# Altium footprint library Heatsink.PcbLib: 31 footprints (part 1 of 2)
Each footprint in its own frame and in the unit in brackets; x right, y up, seen from the top. Pads: shape width x height; smd on the part's side, far side on the other; paste and mask are expansions set on the pad; w line width, h text height; cw(c..) or ccw(c..) is an arc to the next point about the centre after c.
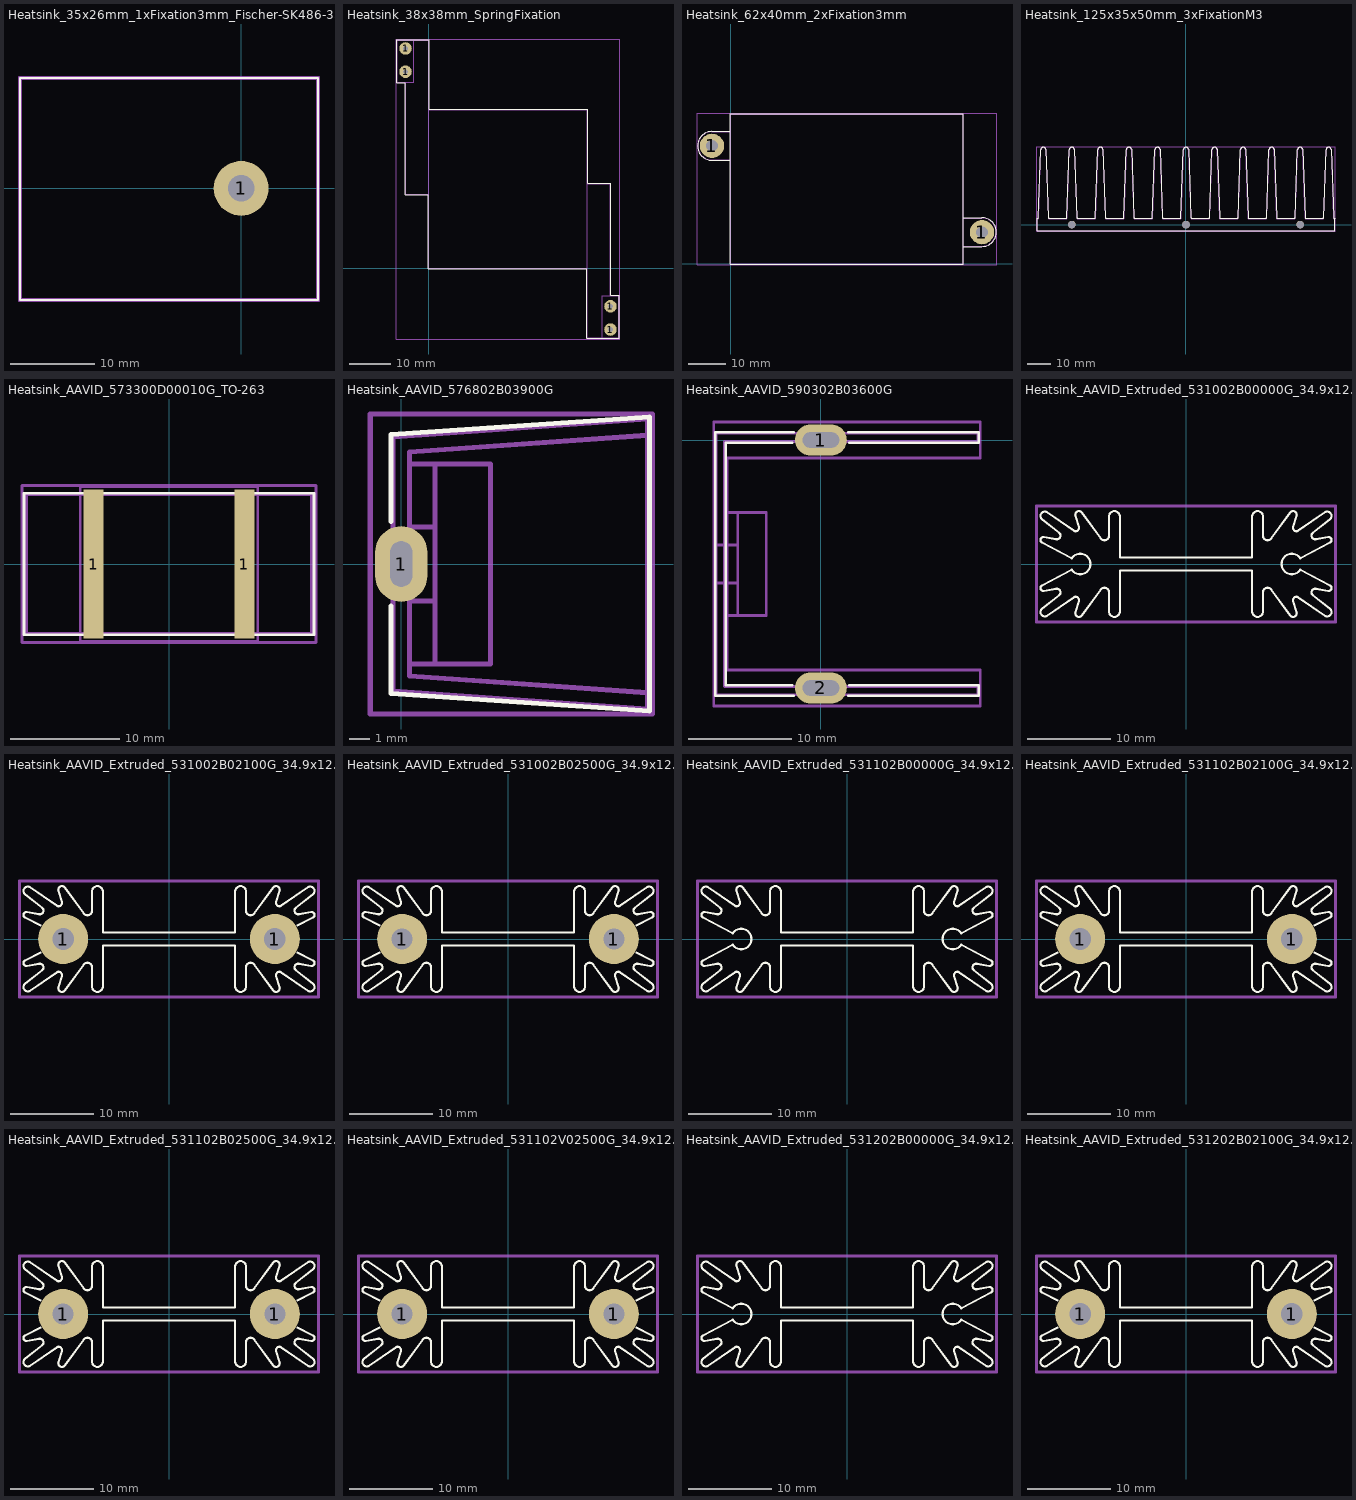
[diagram p0: the footprints below, top view; thin cyan lines are the x and y axes]

## Heatsink_35x26mm_1xFixation3mm_Fischer-SK486-35 [mil]
pads (1):
  round 255.8 hole 122: 1(0,0)
F.SilkS:
  lines w10: -1030.32,-519.68 -1030.32,513.39 357.48,513.39 357.48,-519.68 -1030.32,-519.68
Top Assembly:
  lines w10: -1025.2,-514.96 -1025.2,508.66 352.76,508.66 352.76,-514.96 -1025.2,-514.96
  text "'.Designator'" at -495.54,229.51 h39.37
Top Courtyard:
  lines w10: -1035.04,-524.8 -1035.04,518.5 362.6,518.5 362.6,-524.8 -1035.04,-524.8
Top Designator:
  text ".Designator" at -636.12,-23.14 h60

## Heatsink_38x38mm_SpringFixation [mil]
pads (4):
  round 118.1 hole 43.3: 1(-220,1860) 1(-220,2080) 1(1720,-580) 1(1720,-360)
F.SilkS:
  lines w10: -305.12,1755.91 -224.41,1755.91 -224.41,694.88 -3.94,694.88 -3.94,-3.94 1496.06,-3.94 1496.06,-663.39 1805.12,-663.39 1805.12,-255.91 1724.41,-255.91 1724.41,803.15 1503.94,803.15 1503.94,1503.94 3.94,1503.94 3.94,2163.39 -305.12,2163.39 -305.12,1755.91
Top Assembly:
  lines w10: -220,1760 -220,700 0,700 ; 1500,800 1720,800 1720,-260 ; -140,2160 -140,1760 -300,1760 -300,2160 -140,2160 ; -140,2160 0,2160 0,1500 ; 0,1500 1500,1500 1500,0 ; 0,1500 0,0 1500,0 ; 1500,0 1500,-660 1640,-660 ; 1640,-660 1800,-660 1800,-260 1640,-260 1640,-660
  text "'.Designator'" at 590.68,716.92 h39.37
Top Courtyard:
  lines w10: -309.84,-669.68 1809.84,-669.68 1809.84,2169.68 -309.84,2169.68 -309.84,-669.68
Top Designator:
  text ".Designator" at 450.1,730.01 h60

## Heatsink_62x40mm_2xFixation3mm [mil]
pads (2):
  round 255.8 hole 122: 1(-195,1240) 1(2640,335)
F.SilkS:
  lines w10: -4.06,1088.43 -195,1088.43 cw(c-195,1240) -195,1391.57 -4.06,1391.57 ; 2445.12,183.43 2640,183.43 ccw(c2640,335) 2640,486.57 2445.12,486.57 ; -3.94,-3.94 2444.88,-3.94 2444.88,1578.74 -3.94,1578.74 -3.94,-3.94
Top Assembly:
  lines w10: 0,1092.64 -195,1092.36 cw(c-195,1240) -195,1387.64 0,1387.64 ; 2441.18,187.36 2640,187.36 ccw(c2640,335) 2640,482.64 2441.18,482.64 ; 0,0 2440.94,0 2440.94,1574.8 0,1574.8 0,0
  text "'.Designator'" at 1063.2,754.4 h39.37
Top Courtyard:
  lines w10: -352.36,-9.84 2797.64,-9.84 2797.64,1584.65 -352.36,1584.65 -352.36,-9.84
Top Designator:
  text ".Designator" at 922.73,767.41 h60

## Heatsink_125x35x50mm_3xFixationM3 [mm]
pads (3):
  round 3.2 hole 3.2: Un1(-48,0) Un2(0,0) Un3(48.006,0)
F.SilkS:
  lines w0.254: -62.6,2.57 -62.6,-2.65 62.6,-2.65 62.6,2.55 cw(c62.6,3.05) 62.102,3 ; -62.59,2.57 ccw(c-62.59,3.07) -62.102,2.962 ; -62.1,2.97 -61.1,31.52 cw(c-60,31.47) -58.909,31.619 ; -58.91,31.62 -57.9,3.02 ; -57.898,3.02 ccw(c-57.4,3.07) -57.4,2.57 ; -57.42,2.57 -50.58,2.57 ; -50.59,2.57 ccw(c-50.59,3.07) -50.102,2.962 ; -50.1,2.97 -49.1,31.52 cw(c-48,31.47) -46.909,31.619 ; -46.91,31.62 -45.9,3.02 ; -45.898,3.02 ccw(c-45.4,3.07) -45.4,2.57 ; -45.42,2.57 -38.58,2.57 ; -38.59,2.57 ccw(c-38.59,3.07) -38.102,2.962 ; -38.1,2.97 -37.1,31.52 cw(c-36,31.47) -34.909,31.619 ; -34.91,31.62 -33.9,3.02 ; -33.898,3.02 ccw(c-33.4,3.07) -33.4,2.57 ; -33.42,2.57 -26.58,2.57 ; -26.59,2.57 ccw(c-26.59,3.07) -26.102,2.962 ; -26.1,2.97 -25.1,31.52 cw(c-24,31.47) -22.909,31.619 ; -22.91,31.62 -21.9,3.02 ; -21.898,3.02 ccw(c-21.4,3.07) -21.4,2.57 ; -21.42,2.57 -14.58,2.57 ; -14.59,2.57 ccw(c-14.59,3.07) -14.102,2.962 ; -14.1,2.97 -13.1,31.52 cw(c-12,31.47) -10.909,31.619 ; -10.91,31.62 -9.9,3.02 ; -9.898,3.02 ccw(c-9.4,3.07) -9.4,2.57 ; -9.42,2.57 -2.58,2.57 ; -2.59,2.57 ccw(c-2.59,3.07) -2.102,2.962 ; -2.1,2.97 -1.1,31.52 cw(c0,31.47) 1.091,31.619 ; 1.09,31.62 2.1,3.02 ; 2.102,3.02 ccw(c2.6,3.07) 2.6,2.57 ; 2.58,2.57 9.42,2.57 ; 9.41,2.57 ccw(c9.41,3.07) 9.898,2.962 ; 9.9,2.97 10.9,31.52 cw(c12,31.47) 13.091,31.619 ; 13.09,31.62 14.1,3.02 ; 14.102,3.02 ccw(c14.6,3.07) 14.6,2.57 ; 14.58,2.57 21.42,2.57 ; 21.41,2.57 ccw(c21.41,3.07) 21.898,2.962 ; 21.9,2.97 22.9,31.52 cw(c24,31.47) 25.091,31.619 ; 25.09,31.62 26.1,3.02 ; 26.102,3.02 ccw(c26.6,3.07) 26.6,2.57 ; 26.58,2.57 33.42,2.57 ; 33.41,2.57 ccw(c33.41,3.07) 33.898,2.962 ; 33.9,2.97 34.9,31.52 cw(c36,31.47) 37.091,31.619 ; 37.09,31.62 38.1,3.02 ; 38.102,3.02 ccw(c38.6,3.07) 38.6,2.57 ; 38.58,2.57 45.42,2.57 ; 45.41,2.57 ccw(c45.41,3.07) 45.898,2.962 ; 45.9,2.97 46.9,31.52 cw(c48,31.47) 49.091,31.619 ; 49.09,31.62 50.1,3.02 ; 50.102,3.02 ccw(c50.6,3.07) 50.6,2.57 ; 50.58,2.57 57.42,2.57 ; 57.41,2.57 ccw(c57.41,3.07) 57.898,2.962 ; 57.9,2.95 58.9,31.5 cw(c60,31.45) 61.091,31.599 ; 61.09,31.6 62.1,3
Top Assembly:
  lines w0.254: -62.5,-2.54 62.5,-2.54 62.5,2.46 cw(c62.5,2.962) 61.998,2.962 61.001,31.463 ccw(c60,31.463) 60,32.464 ccw(c60,31.463) 58.999,31.463 58.001,2.962 ; -62.499,-2.54 -62.499,2.461 ; -62.497,2.464 ccw(c-62.497,2.964) -61.996,2.964 ; -61.999,2.962 -61.001,31.463 cw(c-60,31.463) -60,32.464 cw(c-60,31.463) -58.999,31.463 -58.001,2.962 ; -57.998,2.962 ccw(c-57.501,2.962) -57.501,2.464 ; -57.501,2.461 -50.5,2.461 ; -50.498,2.461 ccw(c-50.498,2.962) -49.997,2.962 ; -50,2.959 -49.002,31.46 cw(c-48.001,31.46) -48.001,32.461 cw(c-48.001,31.46) -47,31.46 -46.002,2.959 ; -45.999,2.959 ccw(c-45.502,2.959) -45.502,2.461 ; -45.499,2.461 -38.499,2.461 ; -38.496,2.464 ccw(c-38.496,2.964) -37.996,2.964 ; -37.998,2.962 -37,31.463 cw(c-35.999,31.463) -35.999,32.464 cw(c-35.999,31.463) -34.999,31.463 -34,2.962 ; -33.998,2.962 ccw(c-33.5,2.962) -33.5,2.464 ; -33.5,2.461 -26.5,2.461 ; -26.495,2.464 ccw(c-26.495,2.964) -25.994,2.964 ; -25.997,2.962 -24.999,31.463 cw(c-23.998,31.463) -23.998,32.464 cw(c-23.998,31.463) -22.997,31.463 -21.999,2.962 ; -21.996,2.962 ccw(c-21.499,2.962) -21.499,2.464 ; -21.501,2.461 -14.501,2.461 ; -14.496,2.461 ccw(c-14.496,2.962) -13.995,2.962 ; -13.998,2.959 -13,31.46 cw(c-11.999,31.46) -11.999,32.461 cw(c-11.999,31.46) -10.998,31.46 -10,2.959 ; -9.997,2.959 ccw(c-9.5,2.959) -9.5,2.461 -2.499,2.461 ; -2.497,2.461 ccw(c-2.497,2.962) -1.996,2.962 ; -1.999,2.959 -1.001,31.46 cw(c0,31.46) 0,32.461 cw(c0,31.46) 1.001,31.46 1.999,2.959 ; 2.002,2.959 ccw(c2.499,2.959) 2.499,2.461 9.5,2.461 ; 9.502,2.464 ccw(c9.502,2.964) 10.003,2.964 ; 10,2.962 10.998,31.463 cw(c11.999,31.463) 11.999,32.464 cw(c11.999,31.463) 13,31.463 13.998,2.962 ; 14,2.962 ccw(c14.498,2.962) 14.498,2.464 ; 14.501,2.461 21.501,2.461 ; 21.501,2.464 ccw(c21.501,2.964) 22.001,2.964 ; 21.999,2.962 22.997,31.463 cw(c23.998,31.463) 23.998,32.464 cw(c23.998,31.463) 24.999,31.463 25.997,2.962 ; 25.999,2.962 ccw(c26.497,2.962) 26.497,2.464 ; 26.5,2.461 33.5,2.461 ; 33.505,2.461 ccw(c33.505,2.962) 34.006,2.962 ; 34.003,2.959 35.001,31.46 cw(c36.002,31.46) 36.002,32.461 cw(c36.002,31.46) 37.003,31.46 38.001,2.959 ; 38.003,2.959 ccw(c38.501,2.959) 38.501,2.461 ; 38.499,2.461 45.499,2.461 ; 45.504,2.461 ccw(c45.504,2.962) 46.004,2.962 ; 46.002,2.959 47,31.46 cw(c48.001,31.46) 48.001,32.461 cw(c48.001,31.46) 49.002,31.46 50,2.959 ; 50.002,2.959 ccw(c50.5,2.959) 50.5,2.461 57.501,2.461 ; 57.503,2.464 ccw(c57.503,2.964) 58.003,2.964
  text "'.Designator'" at -4.044,-0.84 h1
Top Courtyard:
  lines w0.254: -62.75,-2.79 62.75,-2.79 62.75,32.71 -62.75,32.71 -62.75,-2.79
Top Designator:
  text ".Designator" at -7.618,14.452 h1.52

## Heatsink_AAVID_573300D00010G_TO-263 [mm]
pads (2):
  rect 1.85x13.7 smd: 1(-6.92,0) 1(6.92,0)
F.SilkS:
  lines w0.254: -13.3,-6.5 13.3,-6.5 13.3,6.5 -13.3,6.5 -13.3,-6.5
Top Assembly:
  lines w0.254: -7.5,-6.35 -7.5,6.35 ; -6.35,-6.35 -6.35,6.35 ; 6.35,-6.35 6.35,6.35 ; 7.5,-6.35 7.5,6.35 ; -13.08,-6.35 13.08,-6.35 13.08,6.35 -13.08,6.35 -13.08,-6.35
  text "'.Designator'" at -3.297,-0.91 h1
Top Courtyard:
  lines w0.254: -13.5,-7.2 13.5,-7.2 13.5,7.2 -13.5,7.2 -13.5,-7.2
Top Designator:
  text ".Designator" at -7.618,-0.508 h1.52
Dwgs.User:
  lines w0.254: -8.15,-7.1 8.15,-7.1 8.15,7.1 -8.15,7.1 -8.15,-7.1
  text "Heat Spreader" at -4.655,2.573 h1
  text "Recommended" at -4.804,4.19 h1
  text "Drain Pad" at -4.688,1.266 h1

## Heatsink_AAVID_576802B03900G [mm]
pads (1):
  rrect100% 2.6x3.78 hole 2.28 slot 1.1 at 0 deg: 1(0,0)
F.SilkS:
  lines w0.254: -0.515,-2.1 -0.515,-6.46 12.405,-7.35 12.405,7.35 -0.515,6.46 -0.515,2.125
Top Assembly:
  lines w0.254: 12.295,6.43 0.405,5.597 0.405,-5.597 12.3,-6.43 ; -0.405,-6.35 12.295,-7.24 12.295,7.24 -0.405,6.35 -0.405,-6.35
  text "'.Designator'" at 2.303,-0.84 h1
Top Courtyard:
  lines w0.254: -1.55,-7.49 12.55,-7.49 12.55,7.49 -1.55,7.49 -1.55,-7.49
Top Designator:
  text ".Designator" at -2.118,-0.508 h1.52
Dwgs.User:
  lines w0.254: 0.405,-1.85 1.675,-1.85 ; 0.405,1.85 1.675,1.85 ; 0.45,-5 4.45,-5 4.45,5 0.45,5 ; 1.675,-5 1.675,5

## Heatsink_AAVID_590302B03600G [mm]
pads (2):
  rrect100% 5.05x3 hole 1.5 slot 3.55 at 0 deg: 1(0,0) 2(0,-24.08)
F.SilkS:
  lines w0.254: -2.775,-23.82 -9.24,-23.82 -9.24,-0.26 -2.775,-0.26 ; -2.65,-24.85 -10.27,-24.85 -10.27,0.75 -2.65,0.75 ; 2.65,-24.84 15.35,-24.84 15.35,-23.82 ; 2.65,0.76 15.35,0.76 15.35,-0.25 2.775,-0.25 ; 2.775,-23.81 15.35,-23.81
Top Assembly:
  lines w0.254: -10.16,-24.74 -10.16,0.66 15.24,0.66 15.24,-0.15 -9.35,-0.15 -9.35,-23.93 15.24,-23.93 15.24,-24.74 -10.155,-24.74 ; -10.15,-13.89 -9.35,-13.89 ; -10.15,-10.19 -9.35,-10.19
  text "'.Designator'" at -1.507,-12.88 h1
Top Courtyard:
  lines w0.254: -10.41,-25.83 15.49,-25.83 15.49,-22.33 -9.1,-22.33 -9.1,-1.75 15.49,-1.75 15.49,1.75 -10.41,1.75 -10.41,-25.83
Top Designator:
  text ".Designator" at -5.078,-12.548 h1.52
Dwgs.User:
  lines w0.254: -9.35,-13.89 -8.08,-13.89 ; -9.35,-10.19 -8.08,-10.19 ; -9.305,-17.04 -5.305,-17.04 -5.305,-7.04 -9.305,-7.04 ; -8.08,-17.04 -8.08,-7.04

## Heatsink_AAVID_Extruded_531002B00000G_34.9x12.7mm_H25.4mm [mm]
F.SilkS:
  lines w0.254: -17.269,-2.565 ccw(c-17.103,-2.881) -17.041,-3.232 -15.573,-2.975 cw(c-15.498,-3.404) -15.22,-3.738 -17.251,-5.347 ccw(c-16.931,-5.768) -16.62,-6.195 -13.494,-4.007 cw(c-13.257,-4.346) -12.861,-4.467 -13.262,-5.755 ccw(c-12.837,-5.901) -12.474,-6.165 -10.227,-3.07 cw(c-9.786,-3.39) -9.24,-3.39 -9.24,-5.7 ccw(c-8.59,-5.7) -7.94,-5.7 -7.94,-0.785 0,-0.785 7.94,-0.785 7.94,-5.7 ccw(c8.59,-5.7) 9.24,-5.7 9.24,-3.39 cw(c9.786,-3.39) 10.227,-3.07 12.474,-6.165 ccw(c12.837,-5.901) 13.262,-5.755 12.861,-4.467 cw(c13.257,-4.346) 13.494,-4.007 16.62,-6.195 ccw(c16.931,-5.768) 17.251,-5.347 15.22,-3.738 cw(c15.498,-3.404) 15.573,-2.975 17.041,-3.232 ccw(c17.103,-2.881) 17.269,-2.565 13.716,-0.693 cw(c12.7,0) 11.47,0 cw(c12.7,0) 13.716,0.693 17.269,2.565 ccw(c17.103,2.881) 17.041,3.232 15.573,2.975 cw(c15.498,3.404) 15.22,3.738 17.251,5.347 ccw(c16.931,5.768) 16.62,6.195 13.494,4.007 cw(c13.257,4.346) 12.861,4.467 13.262,5.755 ccw(c12.837,5.901) 12.474,6.165 10.227,3.07 cw(c9.786,3.39) 9.24,3.39 9.24,5.7 ccw(c8.59,5.7) 7.94,5.7 7.94,0.785 0,0.785 -7.94,0.785 -7.94,5.7 ccw(c-8.59,5.7) -9.24,5.7 -9.24,3.39 cw(c-9.786,3.39) -10.227,3.07 -12.474,6.165 ccw(c-12.837,5.901) -13.262,5.755 -12.861,4.467 cw(c-13.257,4.346) -13.494,4.007 -16.62,6.195 ccw(c-16.931,5.768) -17.251,5.347 -15.22,3.738 cw(c-15.498,3.404) -15.573,2.975 -17.041,3.232 ccw(c-17.103,2.881) -17.269,2.565 -13.716,0.693 cw(c-12.7,0) -11.47,0 cw(c-12.7,0) -13.716,-0.693 -17.269,-2.565
Top Assembly:
  lines w0.254: -17.9,-6.9 17.9,-6.9 17.9,6.9 -17.9,6.9 -17.9,-6.9
  text "'.Designator'" at -4.047,1.16 h1
Top Courtyard:
  lines w0.254: -18,-7 18,-7 18,7 -18,7 -18,-7
Top Designator:
  text ".Designator" at -7.618,-0.508 h1.52

## Heatsink_AAVID_Extruded_531002B02100G_34.9x12.7mm_H25.4mm [mm]
pads (2):
  round 6 hole 2.6: 1(-12.7,0) 1(12.7,0)
F.SilkS:
  lines w0.254: -15.4,-1.6 -17.269,-2.565 ccw(c-17.103,-2.881) -17.041,-3.232 -15.573,-2.975 cw(c-15.498,-3.404) -15.22,-3.738 -17.251,-5.347 ccw(c-16.931,-5.768) -16.62,-6.195 -13.494,-4.007 cw(c-13.257,-4.346) -12.861,-4.467 -13.262,-5.755 ccw(c-12.837,-5.901) -12.474,-6.165 -10.227,-3.07 cw(c-9.786,-3.39) -9.24,-3.39 -9.24,-5.7 ccw(c-8.59,-5.7) -7.94,-5.7 -7.94,-0.785 0,-0.785 7.94,-0.785 7.94,-5.7 ccw(c8.59,-5.7) 9.24,-5.7 9.24,-3.39 cw(c9.786,-3.39) 10.227,-3.07 12.474,-6.165 ccw(c12.837,-5.901) 13.262,-5.755 12.861,-4.467 cw(c13.257,-4.346) 13.494,-4.007 16.62,-6.195 ccw(c16.931,-5.768) 17.251,-5.347 15.22,-3.738 cw(c15.498,-3.404) 15.573,-2.975 17.041,-3.232 ccw(c17.103,-2.881) 17.269,-2.565 15.4,-1.6 ; -15.4,1.6 -17.269,2.565 cw(c-17.103,2.881) -17.041,3.232 -15.573,2.975 ccw(c-15.498,3.404) -15.22,3.738 -17.251,5.347 cw(c-16.931,5.768) -16.62,6.195 -13.494,4.007 ccw(c-13.257,4.346) -12.861,4.467 -13.262,5.755 cw(c-12.837,5.901) -12.474,6.165 -10.227,3.07 ccw(c-9.786,3.39) -9.24,3.39 -9.24,5.7 cw(c-8.59,5.7) -7.94,5.7 -7.94,0.785 0,0.785 7.94,0.785 7.94,5.7 cw(c8.59,5.7) 9.24,5.7 9.24,3.39 ccw(c9.786,3.39) 10.227,3.07 12.474,6.165 cw(c12.837,5.901) 13.262,5.755 12.861,4.467 ccw(c13.257,4.346) 13.494,4.007 16.62,6.195 cw(c16.931,5.768) 17.251,5.347 15.22,3.738 ccw(c15.498,3.404) 15.573,2.975 17.041,3.232 cw(c17.103,2.881) 17.269,2.565 15.4,1.6
Top Assembly:
  lines w0.254: -17.9,-6.9 17.9,-6.9 17.9,6.9 -17.9,6.9 -17.9,-6.9
  text "'.Designator'" at -4.047,1.16 h1
Top Courtyard:
  lines w0.254: -18,-7 18,-7 18,7 -18,7 -18,-7
Top Designator:
  text ".Designator" at -7.618,-0.508 h1.52

## Heatsink_AAVID_Extruded_531002B02500G_34.9x12.7mm_H25.4mm [mm]
pads (2):
  round 6 hole 2.5: 1(-12.7,0) 1(12.7,0)
F.SilkS:
  lines w0.254: -15.4,-1.6 -17.269,-2.565 ccw(c-17.103,-2.881) -17.041,-3.232 -15.573,-2.975 cw(c-15.498,-3.404) -15.22,-3.738 -17.251,-5.347 ccw(c-16.931,-5.768) -16.62,-6.195 -13.494,-4.007 cw(c-13.257,-4.346) -12.861,-4.467 -13.262,-5.755 ccw(c-12.837,-5.901) -12.474,-6.165 -10.227,-3.07 cw(c-9.786,-3.39) -9.24,-3.39 -9.24,-5.7 ccw(c-8.59,-5.7) -7.94,-5.7 -7.94,-0.785 0,-0.785 7.94,-0.785 7.94,-5.7 ccw(c8.59,-5.7) 9.24,-5.7 9.24,-3.39 cw(c9.786,-3.39) 10.227,-3.07 12.474,-6.165 ccw(c12.837,-5.901) 13.262,-5.755 12.861,-4.467 cw(c13.257,-4.346) 13.494,-4.007 16.62,-6.195 ccw(c16.931,-5.768) 17.251,-5.347 15.22,-3.738 cw(c15.498,-3.404) 15.573,-2.975 17.041,-3.232 ccw(c17.103,-2.881) 17.269,-2.565 15.4,-1.6 ; -15.4,1.6 -17.269,2.565 cw(c-17.103,2.881) -17.041,3.232 -15.573,2.975 ccw(c-15.498,3.404) -15.22,3.738 -17.251,5.347 cw(c-16.931,5.768) -16.62,6.195 -13.494,4.007 ccw(c-13.257,4.346) -12.861,4.467 -13.262,5.755 cw(c-12.837,5.901) -12.474,6.165 -10.227,3.07 ccw(c-9.786,3.39) -9.24,3.39 -9.24,5.7 cw(c-8.59,5.7) -7.94,5.7 -7.94,0.785 0,0.785 7.94,0.785 7.94,5.7 cw(c8.59,5.7) 9.24,5.7 9.24,3.39 ccw(c9.786,3.39) 10.227,3.07 12.474,6.165 cw(c12.837,5.901) 13.262,5.755 12.861,4.467 ccw(c13.257,4.346) 13.494,4.007 16.62,6.195 cw(c16.931,5.768) 17.251,5.347 15.22,3.738 ccw(c15.498,3.404) 15.573,2.975 17.041,3.232 cw(c17.103,2.881) 17.269,2.565 15.4,1.6
Top Assembly:
  lines w0.254: -17.9,-6.9 17.9,-6.9 17.9,6.9 -17.9,6.9 -17.9,-6.9
  text "'.Designator'" at -4.047,1.16 h1
Top Courtyard:
  lines w0.254: -18,-7 18,-7 18,7 -18,7 -18,-7
Top Designator:
  text ".Designator" at -7.618,-0.508 h1.52

## Heatsink_AAVID_Extruded_531102B00000G_34.9x12.7mm_H38.1mm [mm]
F.SilkS:
  lines w0.254: -17.269,-2.565 ccw(c-17.103,-2.881) -17.041,-3.232 -15.573,-2.975 cw(c-15.498,-3.404) -15.22,-3.738 -17.251,-5.347 ccw(c-16.931,-5.768) -16.62,-6.195 -13.494,-4.007 cw(c-13.257,-4.346) -12.861,-4.467 -13.262,-5.755 ccw(c-12.837,-5.901) -12.474,-6.165 -10.227,-3.07 cw(c-9.786,-3.39) -9.24,-3.39 -9.24,-5.7 ccw(c-8.59,-5.7) -7.94,-5.7 -7.94,-0.785 0,-0.785 7.94,-0.785 7.94,-5.7 ccw(c8.59,-5.7) 9.24,-5.7 9.24,-3.39 cw(c9.786,-3.39) 10.227,-3.07 12.474,-6.165 ccw(c12.837,-5.901) 13.262,-5.755 12.861,-4.467 cw(c13.257,-4.346) 13.494,-4.007 16.62,-6.195 ccw(c16.931,-5.768) 17.251,-5.347 15.22,-3.738 cw(c15.498,-3.404) 15.573,-2.975 17.041,-3.232 ccw(c17.103,-2.881) 17.269,-2.565 13.716,-0.693 cw(c12.7,0) 11.47,0 cw(c12.7,0) 13.716,0.693 17.269,2.565 ccw(c17.103,2.881) 17.041,3.232 15.573,2.975 cw(c15.498,3.404) 15.22,3.738 17.251,5.347 ccw(c16.931,5.768) 16.62,6.195 13.494,4.007 cw(c13.257,4.346) 12.861,4.467 13.262,5.755 ccw(c12.837,5.901) 12.474,6.165 10.227,3.07 cw(c9.786,3.39) 9.24,3.39 9.24,5.7 ccw(c8.59,5.7) 7.94,5.7 7.94,0.785 0,0.785 -7.94,0.785 -7.94,5.7 ccw(c-8.59,5.7) -9.24,5.7 -9.24,3.39 cw(c-9.786,3.39) -10.227,3.07 -12.474,6.165 ccw(c-12.837,5.901) -13.262,5.755 -12.861,4.467 cw(c-13.257,4.346) -13.494,4.007 -16.62,6.195 ccw(c-16.931,5.768) -17.251,5.347 -15.22,3.738 cw(c-15.498,3.404) -15.573,2.975 -17.041,3.232 ccw(c-17.103,2.881) -17.269,2.565 -13.716,0.693 cw(c-12.7,0) -11.47,0 cw(c-12.7,0) -13.716,-0.693 -17.269,-2.565
Top Assembly:
  lines w0.254: -17.9,-6.9 17.9,-6.9 17.9,6.9 -17.9,6.9 -17.9,-6.9
  text "'.Designator'" at -4.047,1.16 h1
Top Courtyard:
  lines w0.254: -18,-7 18,-7 18,7 -18,7 -18,-7
Top Designator:
  text ".Designator" at -7.618,-0.508 h1.52

## Heatsink_AAVID_Extruded_531102B02100G_34.9x12.7mm_H38.1mm [mm]
pads (2):
  round 6 hole 2.6: 1(-12.7,0) 1(12.7,0)
F.SilkS:
  lines w0.254: -15.4,-1.6 -17.269,-2.565 ccw(c-17.103,-2.881) -17.041,-3.232 -15.573,-2.975 cw(c-15.498,-3.404) -15.22,-3.738 -17.251,-5.347 ccw(c-16.931,-5.768) -16.62,-6.195 -13.494,-4.007 cw(c-13.257,-4.346) -12.861,-4.467 -13.262,-5.755 ccw(c-12.837,-5.901) -12.474,-6.165 -10.227,-3.07 cw(c-9.786,-3.39) -9.24,-3.39 -9.24,-5.7 ccw(c-8.59,-5.7) -7.94,-5.7 -7.94,-0.785 0,-0.785 7.94,-0.785 7.94,-5.7 ccw(c8.59,-5.7) 9.24,-5.7 9.24,-3.39 cw(c9.786,-3.39) 10.227,-3.07 12.474,-6.165 ccw(c12.837,-5.901) 13.262,-5.755 12.861,-4.467 cw(c13.257,-4.346) 13.494,-4.007 16.62,-6.195 ccw(c16.931,-5.768) 17.251,-5.347 15.22,-3.738 cw(c15.498,-3.404) 15.573,-2.975 17.041,-3.232 ccw(c17.103,-2.881) 17.269,-2.565 15.4,-1.6 ; -15.4,1.6 -17.269,2.565 cw(c-17.103,2.881) -17.041,3.232 -15.573,2.975 ccw(c-15.498,3.404) -15.22,3.738 -17.251,5.347 cw(c-16.931,5.768) -16.62,6.195 -13.494,4.007 ccw(c-13.257,4.346) -12.861,4.467 -13.262,5.755 cw(c-12.837,5.901) -12.474,6.165 -10.227,3.07 ccw(c-9.786,3.39) -9.24,3.39 -9.24,5.7 cw(c-8.59,5.7) -7.94,5.7 -7.94,0.785 0,0.785 7.94,0.785 7.94,5.7 cw(c8.59,5.7) 9.24,5.7 9.24,3.39 ccw(c9.786,3.39) 10.227,3.07 12.474,6.165 cw(c12.837,5.901) 13.262,5.755 12.861,4.467 ccw(c13.257,4.346) 13.494,4.007 16.62,6.195 cw(c16.931,5.768) 17.251,5.347 15.22,3.738 ccw(c15.498,3.404) 15.573,2.975 17.041,3.232 cw(c17.103,2.881) 17.269,2.565 15.4,1.6
Top Assembly:
  lines w0.254: -17.9,-6.9 17.9,-6.9 17.9,6.9 -17.9,6.9 -17.9,-6.9
  text "'.Designator'" at -4.047,1.16 h1
Top Courtyard:
  lines w0.254: -18,-7 18,-7 18,7 -18,7 -18,-7
Top Designator:
  text ".Designator" at -7.618,-0.508 h1.52

## Heatsink_AAVID_Extruded_531102B02500G_34.9x12.7mm_H38.1mm [mm]
pads (2):
  round 6 hole 2.5: 1(-12.7,0) 1(12.7,0)
F.SilkS:
  lines w0.254: -15.4,-1.6 -17.269,-2.565 ccw(c-17.103,-2.881) -17.041,-3.232 -15.573,-2.975 cw(c-15.498,-3.404) -15.22,-3.738 -17.251,-5.347 ccw(c-16.931,-5.768) -16.62,-6.195 -13.494,-4.007 cw(c-13.257,-4.346) -12.861,-4.467 -13.262,-5.755 ccw(c-12.837,-5.901) -12.474,-6.165 -10.227,-3.07 cw(c-9.786,-3.39) -9.24,-3.39 -9.24,-5.7 ccw(c-8.59,-5.7) -7.94,-5.7 -7.94,-0.785 0,-0.785 7.94,-0.785 7.94,-5.7 ccw(c8.59,-5.7) 9.24,-5.7 9.24,-3.39 cw(c9.786,-3.39) 10.227,-3.07 12.474,-6.165 ccw(c12.837,-5.901) 13.262,-5.755 12.861,-4.467 cw(c13.257,-4.346) 13.494,-4.007 16.62,-6.195 ccw(c16.931,-5.768) 17.251,-5.347 15.22,-3.738 cw(c15.498,-3.404) 15.573,-2.975 17.041,-3.232 ccw(c17.103,-2.881) 17.269,-2.565 15.4,-1.6 ; -15.4,1.6 -17.269,2.565 cw(c-17.103,2.881) -17.041,3.232 -15.573,2.975 ccw(c-15.498,3.404) -15.22,3.738 -17.251,5.347 cw(c-16.931,5.768) -16.62,6.195 -13.494,4.007 ccw(c-13.257,4.346) -12.861,4.467 -13.262,5.755 cw(c-12.837,5.901) -12.474,6.165 -10.227,3.07 ccw(c-9.786,3.39) -9.24,3.39 -9.24,5.7 cw(c-8.59,5.7) -7.94,5.7 -7.94,0.785 0,0.785 7.94,0.785 7.94,5.7 cw(c8.59,5.7) 9.24,5.7 9.24,3.39 ccw(c9.786,3.39) 10.227,3.07 12.474,6.165 cw(c12.837,5.901) 13.262,5.755 12.861,4.467 ccw(c13.257,4.346) 13.494,4.007 16.62,6.195 cw(c16.931,5.768) 17.251,5.347 15.22,3.738 ccw(c15.498,3.404) 15.573,2.975 17.041,3.232 cw(c17.103,2.881) 17.269,2.565 15.4,1.6
Top Assembly:
  lines w0.254: -17.9,-6.9 17.9,-6.9 17.9,6.9 -17.9,6.9 -17.9,-6.9
  text "'.Designator'" at -4.047,1.16 h1
Top Courtyard:
  lines w0.254: -18,-7 18,-7 18,7 -18,7 -18,-7
Top Designator:
  text ".Designator" at -7.618,-0.508 h1.52

## Heatsink_AAVID_Extruded_531102V02500G_34.9x12.7mm_H38.1mm [mm]
pads (2):
  round 6 hole 2.5: 1(-12.7,0) 1(12.7,0)
F.SilkS:
  lines w0.254: -15.4,-1.6 -17.269,-2.565 ccw(c-17.103,-2.881) -17.041,-3.232 -15.573,-2.975 cw(c-15.498,-3.404) -15.22,-3.738 -17.251,-5.347 ccw(c-16.931,-5.768) -16.62,-6.195 -13.494,-4.007 cw(c-13.257,-4.346) -12.861,-4.467 -13.262,-5.755 ccw(c-12.837,-5.901) -12.474,-6.165 -10.227,-3.07 cw(c-9.786,-3.39) -9.24,-3.39 -9.24,-5.7 ccw(c-8.59,-5.7) -7.94,-5.7 -7.94,-0.785 0,-0.785 7.94,-0.785 7.94,-5.7 ccw(c8.59,-5.7) 9.24,-5.7 9.24,-3.39 cw(c9.786,-3.39) 10.227,-3.07 12.474,-6.165 ccw(c12.837,-5.901) 13.262,-5.755 12.861,-4.467 cw(c13.257,-4.346) 13.494,-4.007 16.62,-6.195 ccw(c16.931,-5.768) 17.251,-5.347 15.22,-3.738 cw(c15.498,-3.404) 15.573,-2.975 17.041,-3.232 ccw(c17.103,-2.881) 17.269,-2.565 15.4,-1.6 ; -15.4,1.6 -17.269,2.565 cw(c-17.103,2.881) -17.041,3.232 -15.573,2.975 ccw(c-15.498,3.404) -15.22,3.738 -17.251,5.347 cw(c-16.931,5.768) -16.62,6.195 -13.494,4.007 ccw(c-13.257,4.346) -12.861,4.467 -13.262,5.755 cw(c-12.837,5.901) -12.474,6.165 -10.227,3.07 ccw(c-9.786,3.39) -9.24,3.39 -9.24,5.7 cw(c-8.59,5.7) -7.94,5.7 -7.94,0.785 0,0.785 7.94,0.785 7.94,5.7 cw(c8.59,5.7) 9.24,5.7 9.24,3.39 ccw(c9.786,3.39) 10.227,3.07 12.474,6.165 cw(c12.837,5.901) 13.262,5.755 12.861,4.467 ccw(c13.257,4.346) 13.494,4.007 16.62,6.195 cw(c16.931,5.768) 17.251,5.347 15.22,3.738 ccw(c15.498,3.404) 15.573,2.975 17.041,3.232 cw(c17.103,2.881) 17.269,2.565 15.4,1.6
Top Assembly:
  lines w0.254: -17.9,-6.9 17.9,-6.9 17.9,6.9 -17.9,6.9 -17.9,-6.9
  text "'.Designator'" at -4.047,1.16 h1
Top Courtyard:
  lines w0.254: -18,-7 18,-7 18,7 -18,7 -18,-7
Top Designator:
  text ".Designator" at -7.618,-0.508 h1.52

## Heatsink_AAVID_Extruded_531202B00000G_34.9x12.7mm_H50.8mm [mm]
F.SilkS:
  lines w0.254: -17.269,-2.565 ccw(c-17.103,-2.881) -17.041,-3.232 -15.573,-2.975 cw(c-15.498,-3.404) -15.22,-3.738 -17.251,-5.347 ccw(c-16.931,-5.768) -16.62,-6.195 -13.494,-4.007 cw(c-13.257,-4.346) -12.861,-4.467 -13.262,-5.755 ccw(c-12.837,-5.901) -12.474,-6.165 -10.227,-3.07 cw(c-9.786,-3.39) -9.24,-3.39 -9.24,-5.7 ccw(c-8.59,-5.7) -7.94,-5.7 -7.94,-0.785 0,-0.785 7.94,-0.785 7.94,-5.7 ccw(c8.59,-5.7) 9.24,-5.7 9.24,-3.39 cw(c9.786,-3.39) 10.227,-3.07 12.474,-6.165 ccw(c12.837,-5.901) 13.262,-5.755 12.861,-4.467 cw(c13.257,-4.346) 13.494,-4.007 16.62,-6.195 ccw(c16.931,-5.768) 17.251,-5.347 15.22,-3.738 cw(c15.498,-3.404) 15.573,-2.975 17.041,-3.232 ccw(c17.103,-2.881) 17.269,-2.565 13.716,-0.693 cw(c12.7,0) 11.47,0 cw(c12.7,0) 13.716,0.693 17.269,2.565 ccw(c17.103,2.881) 17.041,3.232 15.573,2.975 cw(c15.498,3.404) 15.22,3.738 17.251,5.347 ccw(c16.931,5.768) 16.62,6.195 13.494,4.007 cw(c13.257,4.346) 12.861,4.467 13.262,5.755 ccw(c12.837,5.901) 12.474,6.165 10.227,3.07 cw(c9.786,3.39) 9.24,3.39 9.24,5.7 ccw(c8.59,5.7) 7.94,5.7 7.94,0.785 0,0.785 -7.94,0.785 -7.94,5.7 ccw(c-8.59,5.7) -9.24,5.7 -9.24,3.39 cw(c-9.786,3.39) -10.227,3.07 -12.474,6.165 ccw(c-12.837,5.901) -13.262,5.755 -12.861,4.467 cw(c-13.257,4.346) -13.494,4.007 -16.62,6.195 ccw(c-16.931,5.768) -17.251,5.347 -15.22,3.738 cw(c-15.498,3.404) -15.573,2.975 -17.041,3.232 ccw(c-17.103,2.881) -17.269,2.565 -13.716,0.693 cw(c-12.7,0) -11.47,0 cw(c-12.7,0) -13.716,-0.693 -17.269,-2.565
Top Assembly:
  lines w0.254: -17.9,-6.9 17.9,-6.9 17.9,6.9 -17.9,6.9 -17.9,-6.9
  text "'.Designator'" at -4.047,1.16 h1
Top Courtyard:
  lines w0.254: -18,-7 18,-7 18,7 -18,7 -18,-7
Top Designator:
  text ".Designator" at -7.618,-0.508 h1.52

## Heatsink_AAVID_Extruded_531202B02100G_34.9x12.7mm_H50.8mm [mm]
pads (2):
  round 6 hole 2.6: 1(-12.7,0) 1(12.7,0)
F.SilkS:
  lines w0.254: -15.4,-1.6 -17.269,-2.565 ccw(c-17.103,-2.881) -17.041,-3.232 -15.573,-2.975 cw(c-15.498,-3.404) -15.22,-3.738 -17.251,-5.347 ccw(c-16.931,-5.768) -16.62,-6.195 -13.494,-4.007 cw(c-13.257,-4.346) -12.861,-4.467 -13.262,-5.755 ccw(c-12.837,-5.901) -12.474,-6.165 -10.227,-3.07 cw(c-9.786,-3.39) -9.24,-3.39 -9.24,-5.7 ccw(c-8.59,-5.7) -7.94,-5.7 -7.94,-0.785 0,-0.785 7.94,-0.785 7.94,-5.7 ccw(c8.59,-5.7) 9.24,-5.7 9.24,-3.39 cw(c9.786,-3.39) 10.227,-3.07 12.474,-6.165 ccw(c12.837,-5.901) 13.262,-5.755 12.861,-4.467 cw(c13.257,-4.346) 13.494,-4.007 16.62,-6.195 ccw(c16.931,-5.768) 17.251,-5.347 15.22,-3.738 cw(c15.498,-3.404) 15.573,-2.975 17.041,-3.232 ccw(c17.103,-2.881) 17.269,-2.565 15.4,-1.6 ; -15.4,1.6 -17.269,2.565 cw(c-17.103,2.881) -17.041,3.232 -15.573,2.975 ccw(c-15.498,3.404) -15.22,3.738 -17.251,5.347 cw(c-16.931,5.768) -16.62,6.195 -13.494,4.007 ccw(c-13.257,4.346) -12.861,4.467 -13.262,5.755 cw(c-12.837,5.901) -12.474,6.165 -10.227,3.07 ccw(c-9.786,3.39) -9.24,3.39 -9.24,5.7 cw(c-8.59,5.7) -7.94,5.7 -7.94,0.785 0,0.785 7.94,0.785 7.94,5.7 cw(c8.59,5.7) 9.24,5.7 9.24,3.39 ccw(c9.786,3.39) 10.227,3.07 12.474,6.165 cw(c12.837,5.901) 13.262,5.755 12.861,4.467 ccw(c13.257,4.346) 13.494,4.007 16.62,6.195 cw(c16.931,5.768) 17.251,5.347 15.22,3.738 ccw(c15.498,3.404) 15.573,2.975 17.041,3.232 cw(c17.103,2.881) 17.269,2.565 15.4,1.6
Top Assembly:
  lines w0.254: -17.9,-6.9 17.9,-6.9 17.9,6.9 -17.9,6.9 -17.9,-6.9
  text "'.Designator'" at -4.047,1.16 h1
Top Courtyard:
  lines w0.254: -18,-7 18,-7 18,7 -18,7 -18,-7
Top Designator:
  text ".Designator" at -7.618,-0.508 h1.52